# EAGLE library part RASPBERRYPI_B (library microbuilder)
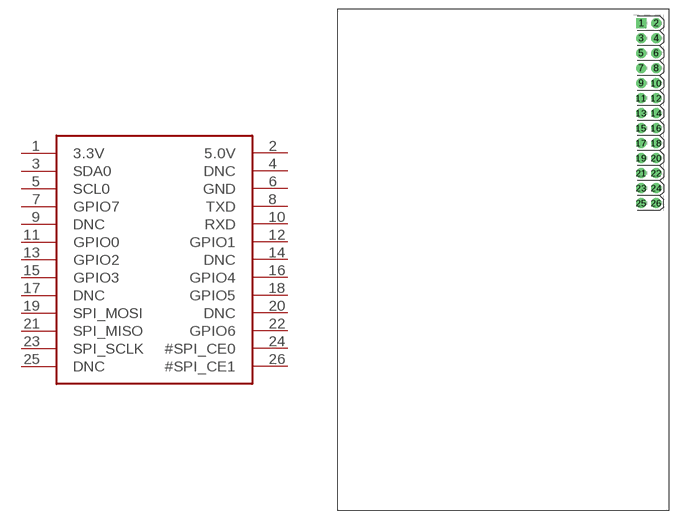
[diagram p186: symbol with the pads of RASBERRYPI_SHIELD; footprint RASBERRYPI_SHIELD]

Designator prefix -

## RASPBERRYPI_BB  [RASBERRYPI_SHIELD]
1  3.3V  sup
2  5.0V  sup
3  SDA0
4  DNC  nc
5  SCL0  out
6  GND  sup
7  GPIO7
8  TXD  out
9  DNC  nc
10  RXD  in
11  GPIO0
12  GPIO1
13  GPIO2
14  DNC  nc
15  GPIO3
16  GPIO4
17  DNC  nc
18  GPIO5
19  SPI_MOSI  out
20  DNC  nc
21  SPI_MISO  in
22  GPIO6
23  SPI_SCLK  out
24  #SPI_CE0  out
25  DNC  nc
26  #SPI_CE1  out

## Footprint RASBERRYPI_SHIELD (pad centres in mm)
drill 1 pad 1.676 square: 1 51.308,82.55
drill 1 pad 1.676: 2 53.848,82.55; 3 51.308,80.01; 4 53.848,80.01; 5 51.308,77.47; 6 53.848,77.47; 7 51.308,74.93; 8 53.848,74.93; 9 51.308,72.39; 10 53.848,72.39; 11 51.308,69.85; 12 53.848,69.85; 13 51.308,67.31; 14 53.848,67.31; 15 51.308,64.77; 16 53.848,64.77; 17 51.308,62.23; 18 53.848,62.23; 19 51.308,59.69; 20 53.848,59.69; 21 51.308,57.15; 22 53.848,57.15; 23 51.308,54.61; 24 53.848,54.61; 25 51.308,52.07; 26 53.848,52.07